# Altium schematic symbol library Connectors.SchLib: 25 symbols
Pins are listed as number, name and electrical type; pins without a type are passive.

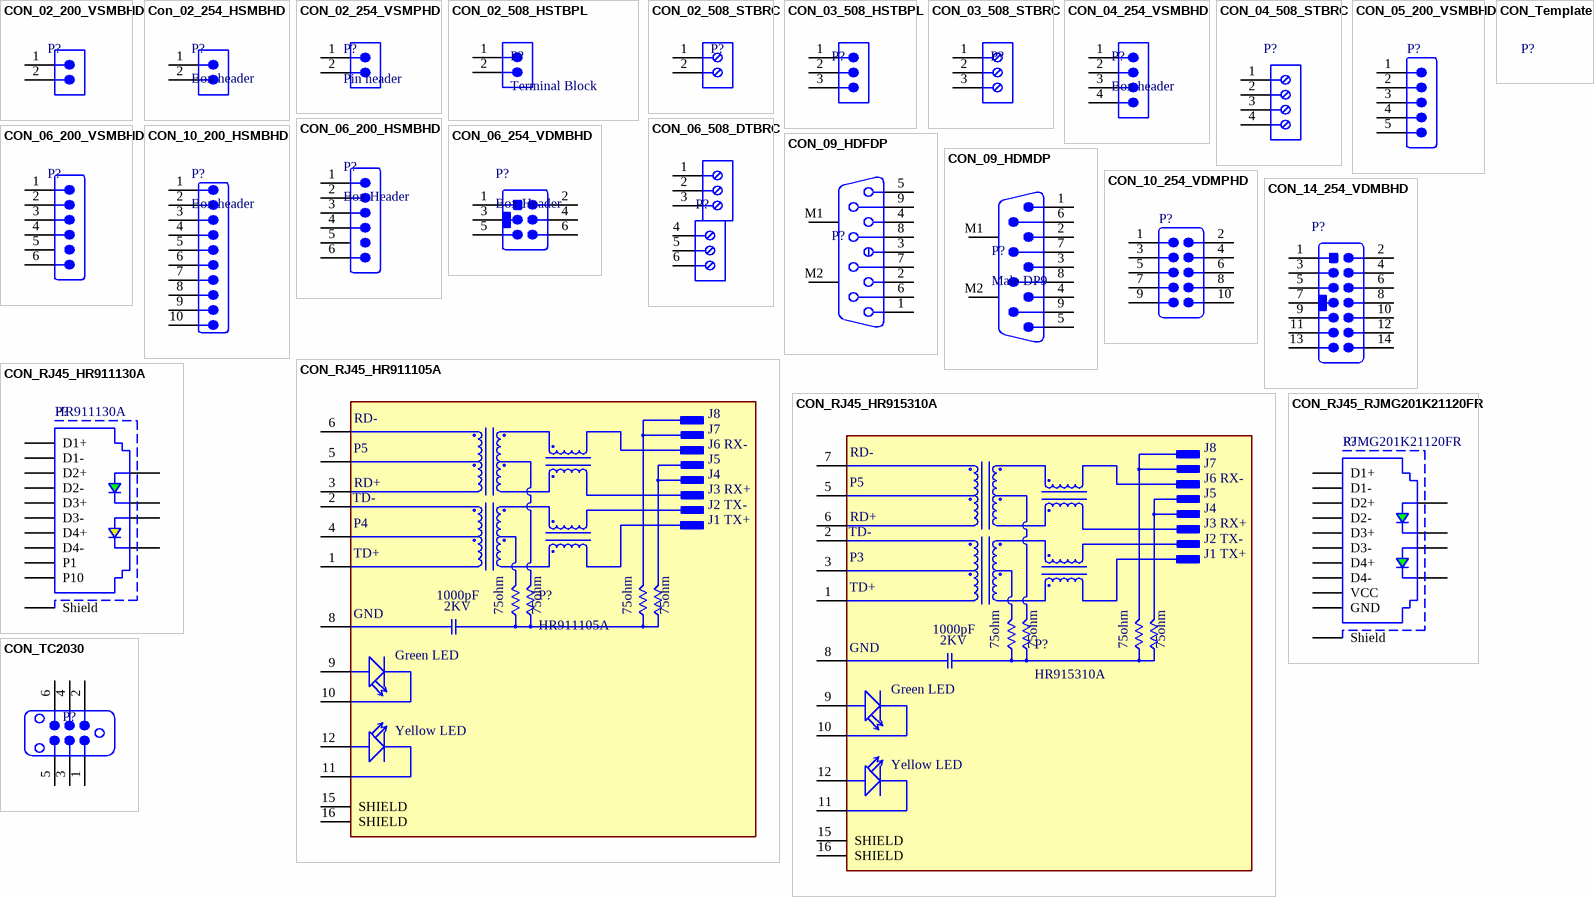
[diagram p0: symbols CON_02_200_VSMBHD to CON_Template]

## CON_02_200_VSMBHD
designator P?, comment Box Header  (value not drawn)
2.00mm 2P Male Vertical Shrouded Header; Mrf. Part: ?; LCSC Part: ?; JLCPCB Part: ?
footprint CON_02_200_VSMBHD
pins: 1, 2

## Con_02_254_HSMBHD
designator P?, comment Box header
2.54mm 2P Male Horizontal Shrouded Header; Mrf. Part: ?; LCSC Part: ?; JLCPCB Part: ?
footprint Con_02_254_HSMBHD
pins: 1, 2

## CON_02_254_VSMPHD
designator P?, comment Pin header
2P 2.54mm Vertical Pin Header; JLCPCB Part: ?; LCSC Part: ?; Mrf. Part: ?
footprint CON_02_254_VSMPHD
pins: 1, 2

## CON_02_508_HSTBPL
designator P?, comment Terminal Block
Pluggable 5.08 mm Close Horizontal Terminal Block; JLCPCB Part: ?; LCSC Part: ?; Mrf. Part: ?
footprint CON_02_508_HSTBPL
pins: 1, 2

## CON_02_508_STBRC
designator P?, comment Terminal Block  (value not drawn)
5.08 mm Horizontal Entry Modular w. Rising Cage Clamp; Mfr. Part: ?; JLCPCB Part: ?; LCSC Part: ?; ComponentLink1Description: link; ComponentLink1URL: extension://bfdogplmndidlpjfhoijckpakkdjkkil/pdf/viewer.html?file=https%3A%2F%2Fwww.we-online.com%2Fcomponents%2Fproducts%2Fdatasheet%2F691213510002.pdf
footprint CON_02_508_STBRC
pins: 1, 2

## CON_03_508_HSTBPL
designator P?, comment Terminal Block  (value not drawn)
3P 5.08mm Horizontal Pluggable Terminal Block with Flanges; JLCPCB Part: ?; LCSC Part: ?; Mrf. Part: ?
footprint CON_03_508_HSTBPL
pins: 1, 2, 3

## CON_03_508_STBRC
designator P?, comment Terminal Block  (value not drawn)
5.08 mm Horizontal Entry Modular w. Rising Cage Clamp; Mfr. Part: ?; JLCPCB Part: ?; LCSC Part: ?
footprint CON_03_508_STBRC
pins: 1, 2, 3

## CON_04_254_VSMBHD
designator P?, comment Box header
2.54mm 4P Male Vertical Shrouded Header; Mrf. Part: ?; LCSC Part: ?; JLCPCB Part: ?
footprint CON_04_254_VSMBHD
pins: 1, 2, 3, 4

## CON_04_508_STBRC
designator P?, comment Terminal Block  (value not drawn)
5.08 mm Horizontal Entry Modular w. Rising Cage Clamp; JLCPCB Part: ?; LCSC Part: ?; Mfr.part: ?
footprint CON_04_508_STBRC
pins: 1, 2, 3, 4

## CON_05_200_VSMBHD
designator P?, comment Box Header  (value not drawn)
2.00mm 5P Male Vertical Shrouded Header; JLCPCB Part: ?; LCSC Part: ?; Mrf. Part: ?
footprint CON_05_200_VSMPHD (2.00mm Male Vertical Shrouded Header, 5p)
pins: 1, 2, 3, 4, 5

## CON_06_200_HSMBHD
designator P?, comment Box Header
2.00mm 6P Male Horizontal Shrouded Header; Mrf. Part: ?; LCSC Part: ?; JLCPCB PArt: ?
footprint CON_06_200_HSMBHD
pins: 1, 2, 3, 4, 5, 6

## CON_06_200_VSMBHD
designator P?, comment Box Header  (value not drawn)
2.00mm 6P Male Vertical Shrouded Header; Mrf. Part: ?; LCSC Part: ?; JLCPCB Part: ?
footprint CON_06_200_VSMBHD (2.00mm Male Vertical Shrouded Header, 6p)
pins: 1, 2, 3, 4, 5, 6

## CON_06_254_VDMBHD
designator P?, comment Box Header
2.54mm 2x3P vertical Male Box Header; Mrf. Part: ?; LCSC Part: ?; JLCPCB Part: ?
footprint CON_06_254_VDMBHD
pins: 1, 2, 3, 4, 5, 6

## CON_06_508_DTBRC
designator P?, comment Terminal Block  (value not drawn)
5.08 mm Double Level Horiz. Entry Modular w. Rising Cage, H=19.1 mm; Mfr.part: ?; ComponentLink1Description: New link; ComponentLink1URL: https://www.we-online.com/en/components/products/TBL_5_08_2315_DOUBLE_LEVEL_HORIZONTAL_ENTRY_MODULAR_W_RISING_CAGE_69123151000X?sq=691231510006#691231510006; JLCPCB Part: ?; LCSC Part: ?
footprint CON_06_508_DTBRC
pins: 1, 2, 3, 4, 5, 6

## CON_09_HDFDP
designator P?, comment Female DP9  (value not drawn)
9P Female D-Sub Right-Angle, Push-Pull Sockets Connector; Mrf. Part: ?; LCSC Part: ?; JLCPCB Part: ?
footprint DP_09_277_HDF
pins: 1, 2, 3, 4, 5, 6, 7, 8, 9, M1 MH1, M2 MH2

## CON_09_HDMDP
designator P?, comment Male DP9
9P Male D-Sub Right-Angle, Push-Pull; Mrf. Part: ?; LCSC Part: ?; JLCPCB Part: ?
footprint DP_09_277_HDM
pins: 1, 2, 3, 4, 5, 6, 7, 8, 9, M1, M2

## CON_10_200_HSMBHD
designator P?, comment Box header
2.00mm 10P Male Horizontal Shrouded Header; Mfr.Part: ?; LCSC Part: ?; JLCPCB  Part: ?
footprint CON_10_200_HSMBHD
pins: 1, 2, 3, 4, 5, 6, 7, 8, 9, 10

## CON_10_254_VDMPHD
designator P?, comment Pin Header  (value not drawn)
2.54mm Male Pin Headers, 11.54mm Height, straight.; JLCPCB Part: ?; LCSC Part: ?; Mfr. Part: ?
footprint CON_10_254_VDMPHD (Pin Header, pitch 2.54 mm, THT, Vertical, dual row, 10p)
pins: 1, 2, 3, 4, 5, 6, 7, 8, 9, 10

## CON_14_254_VDMBHD
designator P?, comment Box Header  (value not drawn)
2.54mm 14P Male Box Header; LCSC Part: ?; JLCPCB Part: ?; Mfr. Part: ?
footprint CON_14_254_VDMBHD
pins: 1, 2, 3, 4, 5, 6, 7, 8, 9, 10, 11, 12, 13, 14

## CON_RJ45_HR911105A
designator P?, comment HR911105A
RJ45Receptacle 1 WithLED Plugin Ethernet Connectors; JLCPCB Part: ?; Mfr. Part: HR911105A; LCSC Part: ?
footprint CON_RJ45_HR911105A
pins: 1 TD+, 2 TD-, 3 RD+, 4 P4, 5 P5, 6 RD-, 8 GND (power), 9 GA, 10 GC, 11 YC, 12 YA, 15 SHIELD, 16 SHIELD
text: J8; J7; J6 RX-; J5; J4; J3 RX+; J2 TX-; J1 TX+; 1000pF; 2KV; 75ohm; Green LED; Yellow LED

## CON_RJ45_HR911130A
designator P?, comment HR911130A
RJ45 1PORT 1000 BASE-T; JLCPCB Part: ?; LCSC Part: ?; Mrf. Part: ?
footprint CON_RJ45_HR911130A
pins: 11, 12, 13, 14, P1, P2 D1+, P3 D1-, P4 D2+, P5 D3+, P6 D3-, P7 D2-, P8 D4+, P9 D4-, P10, Shell Shield

## CON_RJ45_HR915310A
designator P?, comment HR915310A
RJ45Receptacle 1 Shielded  WithLED Plugin Ethernet Connectors; Mrf. Part: HR915310A; LCSC Part: ?; JLCPCB Part: ?
footprint CON_RJ45_HR915310A
pins: 1 TD+, 2 TD-, 3 P3, 5 P5, 6 RD+, 7 RD-, 8 GND (power), 9 GA, 10 GC, 11 YC, 12 YA, 15 SHIELD, 16 SHIELD
text: J8; J7; J6 RX-; J5; J4; J3 RX+; J2 TX-; J1 TX+; 1000pF; 2KV; 75ohm; Green LED; Yellow LED

## CON_RJ45_RJMG201K21120FR
designator P?, comment RJMG201K21120FR
CONN JACK 1PORT 1000 BASE-T PCB; JLCPCB Part: ?; LCSC Part: ?; Mrf. Part: ?
footprint CON_RJ45_RJMG201K21120FR
pins: L1 14, L2 13, L3 12, L4 11, P1 GND, P2 D1+, P3 D1-, P4 D2+, P5 D2-, P6 VCC, P7 D3+, P8 D3-, P9 D4+, P10 D4-, Shell Shield

## CON_TC2030
designator P?, comment TC2030-IDC-NL  (value not drawn)
No Legs, 6-pin Plug-of-Nails programming connector; Mfr. Part: ?; JLCPCB Part: ?; LCSC Part: ?
footprint CON_TC2030
pins: 1, 2, 3, 4, 5, 6

## CON_Template
designator P?
Where is the description; Mfr. Part: ?; JLCPCB Part: ?; LCSC Part: ?